# EAGLE library part DFR0299 (library DFR0299)
Dfplayer - a Mini Mp3 Player Check availability <https://pricing.snapeda.com/parts/DFR0299/DFRobot/view-part?ref=eda>
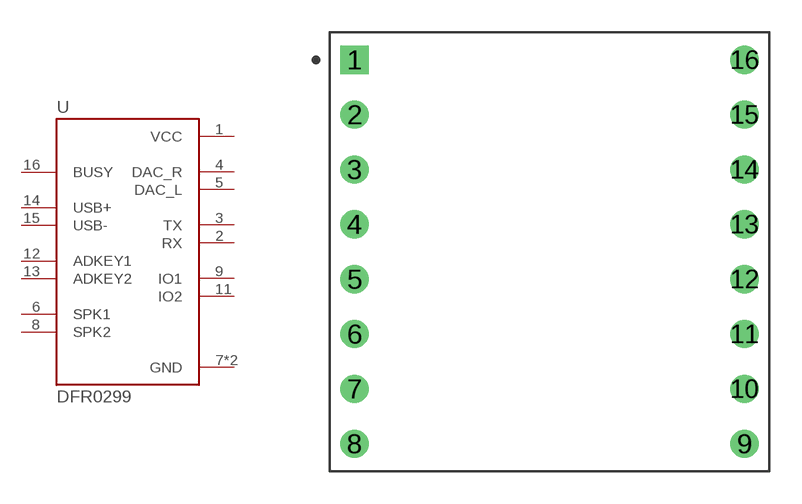
[diagram p0: symbol with the pads of MODULE_DFR0299; footprint MODULE_DFR0299]

Designator prefix U

## DFR0299 (AVAILABILITY: In Stock; CHECK_PRICES: https://www.snapeda.com/parts/DFR0299/DFRobot/view-part/?ref=eda; DESCRIPTION: - MP3 Player Audio Arduino Platform Evaluation Expansion Board; MF: DFRobot; MP: DFR0299; PACKAGE: None; PRICE: None; PURCHASE-URL: https://www.snapeda.com/api/url_track_click_mouser/?unipart_id=588059&manufacturer=DFRobot&part_name=DFR0299&search_term=None; SNAPEDA_LINK: https://www.snapeda.com/parts/DFR0299/DFRobot/view-part/?ref=snap)  [MODULE_DFR0299]
1  VCC  pwr
2  RX  in
3  TX  out
4  DAC_R  out
5  DAC_L  out
6  SPK1  pas
7  GND  pwr
8  SPK2  pas
9  IO1
10  GND  pwr
11  IO2
12  ADKEY1  in
13  ADKEY2  in
14  USB+  in
15  USB-  in
16  BUSY  in

## Footprint MODULE_DFR0299 (pad centres in mm)
drill 0.8 square: 1 -9.017,8.89
drill 0.8: 2 -9.017,6.35; 3 -9.017,3.81; 4 -9.017,1.27; 5 -9.017,-1.27; 6 -9.017,-3.81; 7 -9.017,-6.35; 8 -9.017,-8.89; 9 9.017,-8.89; 10 9.017,-6.35; 11 9.017,-3.81; 12 9.017,-1.27; 13 9.017,1.27; 14 9.017,3.81; 15 9.017,6.35; 16 9.017,8.89